# Altium footprint library MS580330BA0100.PcbLib: 1 footprints
Each footprint in its own frame and in the unit in brackets; x right, y up, seen from the top. Pads: shape width x height; smd on the part's side, far side on the other; paste and mask are expansions set on the pad; w line width, h text height; cw(c..) or ccw(c..) is an arc to the next point about the centre after c.
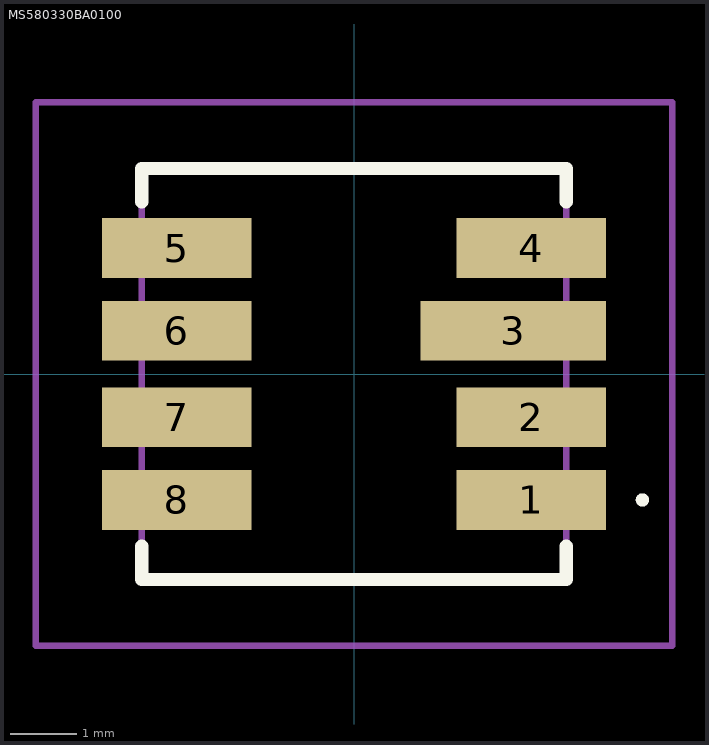
[diagram p0: the footprint, top view; thin cyan lines are the x and y axes]

## MS580330BA0100 [mm]
pads (8):
  rect 2.25x0.9 smd: 1(2.675,-1.9) 2(2.675,-0.65) 4(2.675,1.9) 5(-2.675,1.9) 6(-2.675,0.65) 7(-2.675,-0.65) 8(-2.675,-1.9)
  rect 2.8x0.9 smd: 3(2.4,0.65)
Top Overlay:
  lines w0.1: 4.3,-1.9 4.3,-1.9 ; 4.3,-1.9 ccw(c4.35,-1.9) 4.4,-1.9 ; 4.3,-1.9 cw(c4.35,-1.9) 4.4,-1.9 ; 4.4,-1.9 4.4,-1.9
  lines w0.2: -3.2,-2.6 -3.2,-3.1 3.2,-3.1 3.2,-2.6 ; -3.2,2.6 -3.2,3.1 3.2,3.1 3.2,2.6
Mechanical 15:
  lines w0.1: -3.2,-3.1 3.2,-3.1 3.2,3.1 -3.2,3.1 -3.2,-3.1
Mechanical 20:
  lines w0.1: -4.8,-4.1 4.8,-4.1 4.8,4.1 -4.8,4.1 -4.8,-4.1